# EAGLE library part VN808CM-E (library vn808cm)
edit this description Auto generated by make-symbol-device-package-bsdl.ulp Rev. 43 Source:
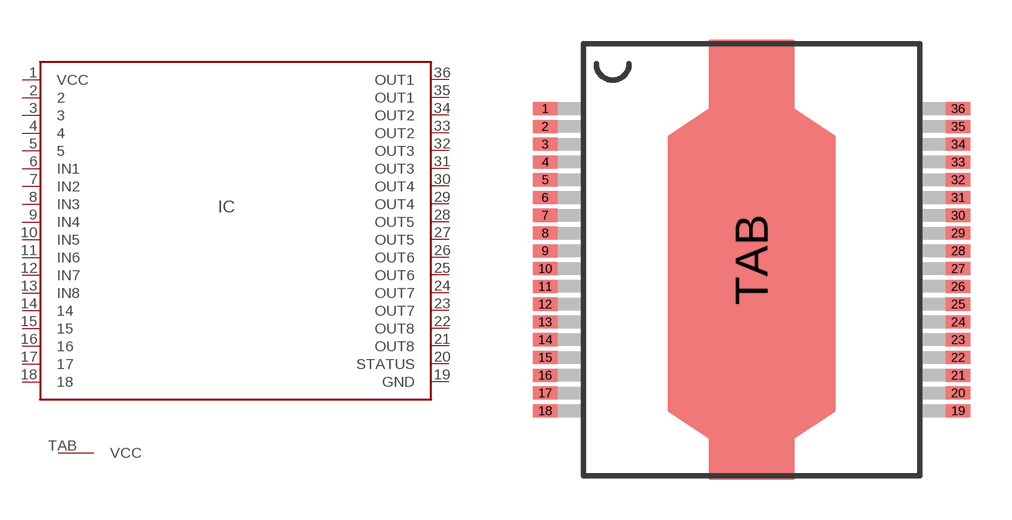
[diagram p0: symbol with the pads of POWERSO-36; footprint POWERSO-36]

Designator prefix IC

## VN808CM-E  [POWERSO-36]
1  VCC  pwr
2  2  nc
3  3  nc
4  4  nc
5  5  nc
6  IN1  in
7  IN2  in
8  IN3  in
9  IN4  in
10  IN5  in
11  IN6  in
12  IN7  in
13  IN8  in
14  14  nc
15  15  nc
16  16  nc
17  17  nc
18  18  nc
19  GND  pwr
20  STATUS  out
21  OUT8  out
22  OUT8  out
23  OUT7  out
24  OUT7  out
25  OUT6  out
26  OUT6  out
27  OUT5  out
28  OUT5  out
29  OUT4  out
30  OUT4  out
31  OUT3  out
32  OUT3  out
33  OUT2  out
34  OUT2  out
35  OUT1  out
36  OUT1  out
TAB  VCC  pwr

## Footprint POWERSO-36 (pad centres in mm)
POWERSO-36 Auto generated by make-symbol-device-package-bsdl.ulp Rev. 43
smd 0.9 x 0.48: 1 -7.55,5.525; 2 -7.55,4.875; 3 -7.55,4.225; 4 -7.55,3.575; 5 -7.55,2.925; 6 -7.55,2.275; 7 -7.55,1.625; 8 -7.55,0.975; 9 -7.55,0.325; 10 -7.55,-0.325; 11 -7.55,-0.975; 12 -7.55,-1.625; 13 -7.55,-2.275; 14 -7.55,-2.925; 15 -7.55,-3.575; 16 -7.55,-4.225; 17 -7.55,-4.875; 18 -7.55,-5.525; 19 7.55,-5.525; 20 7.55,-4.875; 21 7.55,-4.225; 22 7.55,-3.575; 23 7.55,-2.925; 24 7.55,-2.275; 25 7.55,-1.625; 26 7.55,-0.975; 27 7.55,-0.325; 28 7.55,0.325; 29 7.55,0.975; 30 7.55,1.625; 31 7.55,2.275; 32 7.55,2.925; 33 7.55,3.575; 34 7.55,4.225; 35 7.55,4.875; 36 7.55,5.525
smd 3.251 x 6.452: TAB 0,0